# Altium footprint library PCAP_10x20.PcbLib: 1 footprints
Each footprint in its own frame and in the unit in brackets; x right, y up, seen from the top. Pads: shape width x height; smd on the part's side, far side on the other; paste and mask are expansions set on the pad; w line width, h text height; cw(c..) or ccw(c..) is an arc to the next point about the centre after c.
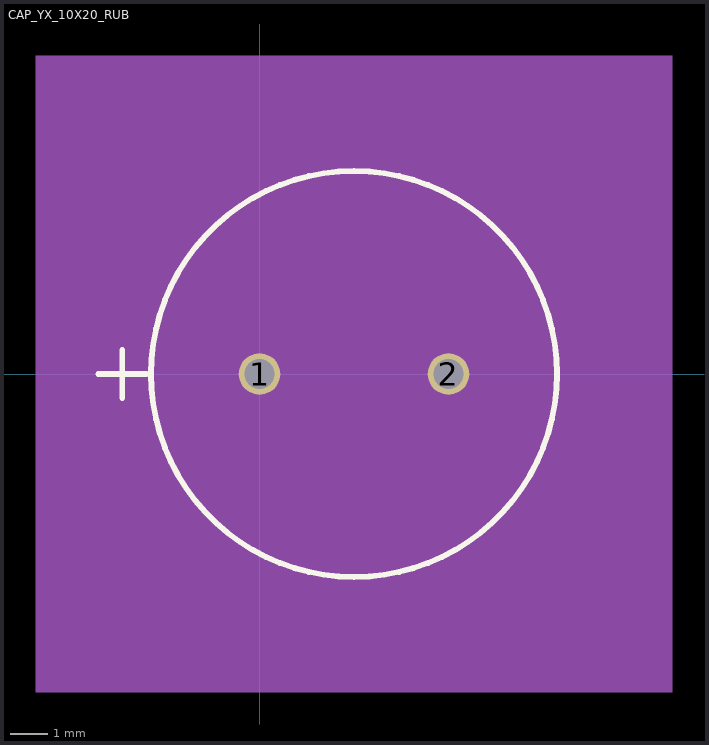
[diagram p0: the footprint, top view; thin cyan lines are the x and y axes]

## CAP_YX_10X20_RUB [mm]
pads (2):
  round 1.1 / inner round 1.372 / far side round 1.1 hole 0.8 mask+0: 1(0,0) 2(5,0)
Top Overlay:
  circle w0.152: c2.5,0 r5.372
  lines w0.152: -4.269,0 -2.999,0 ; -3.634,-0.635 -3.634,0.635
Mechanical 5:
  region: 10.92,-8.42 -5.92,-8.42 -5.92,8.42 10.92,8.42
Mechanical 7:
  lines w0.025: -2.745,0 -2.745,6.896 ; 0,-6.896 0,0 ; 2.5,-5.245 9.396,-5.245 ; 2.5,5.245 9.396,5.245 ; 5,-6.896 5,0 ; 7.745,0 7.745,6.896 ; -2.745,6.515 7.745,6.515 ; -2.745,6.515 -2.491,6.642 -2.491,6.388 -2.745,6.515 ; 0,-6.515 5,-6.515 ; 0,-6.515 0.254,-6.388 0.254,-6.642 0,-6.515 ; 5,-6.515 4.746,-6.388 4.746,-6.642 5,-6.515 ; 7.745,6.515 7.491,6.642 7.491,6.388 7.745,6.515 ; 9.015,-5.245 9.015,5.245 ; 9.015,-5.245 8.888,-4.991 9.142,-4.991 9.015,-5.245 ; 9.015,5.245 8.888,4.991 9.142,4.991 9.015,5.245
  text "Default Pad Style: c137h86" at -5.755,-12.23 h1.27
  text "Alt 1 Pad Style: b152_229h76" at -6.39,-14.135 h1.27
  text "Alt 2 Pad Style: b229_152h76" at -6.39,-16.04 h1.27
  text "0.197in/5mm" at 0.754,-7.658 h0.64
  text "0.413in/10.49mm" at 0.119,7.023 h0.64
  text "0.413in/10.49mm" at 9.523,-0.318 h0.64
Mechanical 13:
  circle w0: c2.5,0 r5.245
  lines w0.025: -4.269,0 -2.999,0 ; -3.634,-0.635 -3.634,0.635
Mechanical 15:
  region: -2.999,2.264 0.236,5.499 4.764,5.499 7.999,2.264 7.999,-2.264 4.764,-5.499 0.236,-5.499 -2.999,-2.264
  lines w0.152: -2.999,-2.264 0.236,-5.499 4.764,-5.499 7.999,-2.264 7.999,2.264 4.764,5.499 0.236,5.499 -2.999,2.264 -2.999,-2.264
3D body "PCAP_10x20.step": height 22.01, standoff -4.37, extent -2.749,-5.245 7.745,5.245
3D body: height 0.25, standoff 0, extent 0,0 0.254,0.254